# EAGLE library part BA6845FS (library BaseApp)
Digikey No:- __BA6845FS-E2CT-ND__
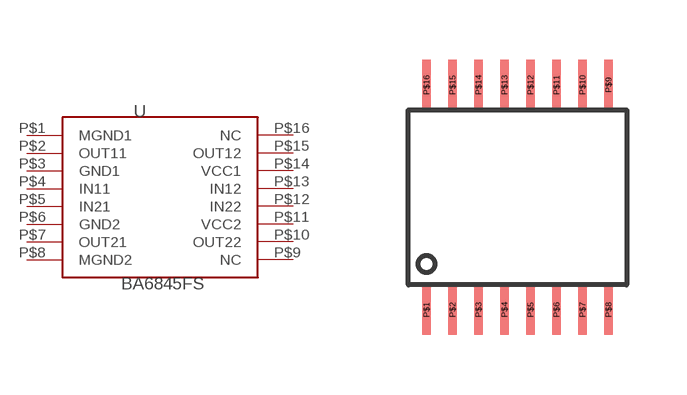
[diagram p85: symbol with the pads of 16PIN_SSOP; footprint 16PIN_SSOP]

Designator prefix -

## BA6845FS  [16PIN_SSOP]
P$1  MGND1
P$2  OUT11
P$3  GND1
P$4  IN11
P$5  IN21
P$6  GND2
P$7  OUT21
P$8  MGND2
P$9  NC
P$10  OUT22
P$11  VCC2
P$12  IN22
P$13  IN12
P$14  VCC1
P$15  OUT12
P$16  NC

## Footprint 16PIN_SSOP (pad centres in mm)
smd 0.22 x 1.25: P$1 -2.275,-2.6; P$2 -1.625,-2.6; P$3 -0.975,-2.6; P$4 -0.325,-2.6; P$5 0.325,-2.6; P$6 0.975,-2.6; P$7 1.625,-2.6; P$8 2.275,-2.6; P$9 2.275,3.02; P$10 1.625,3.02; P$11 0.975,3.02; P$12 0.325,3.02; P$13 -0.325,3.02; P$14 -0.975,3.02; P$15 -1.625,3.02; P$16 -2.275,3.02